# EAGLE library part AD8422 (library common)
16-Bit SAR ADC - 4MSPS
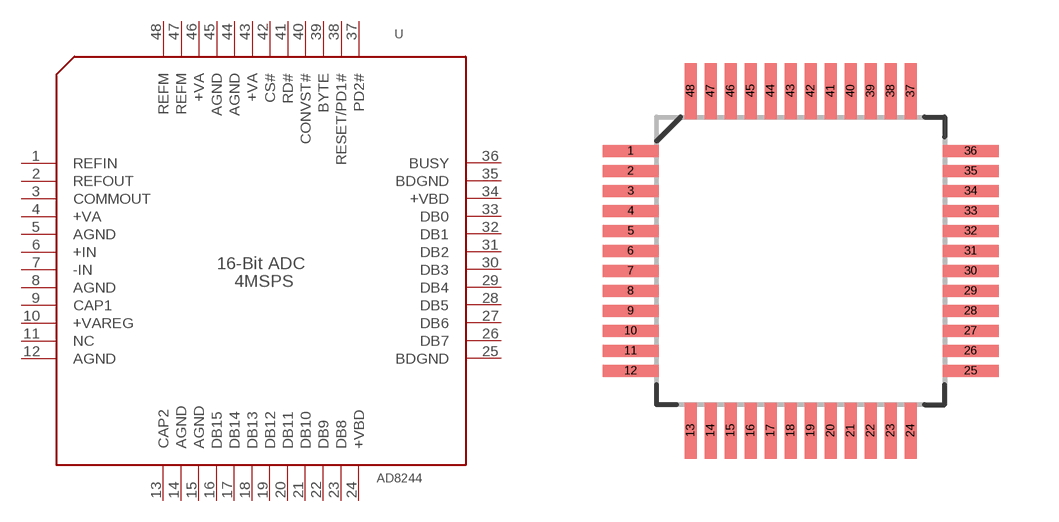
[diagram p16: symbol with the pads of S-PQFP-G48; footprint S-PQFP-G48]

Designator prefix -

## AD8422  [S-PQFP-G48]
1  REFIN
2  REFOUT
3  COMMOUT
4  +VA
5  AGND
6  +IN
7  -IN
8  AGND
9  CAP1
10  +VAREG
11  NC
12  AGND
13  CAP2
14  AGND
15  AGND
16  DB15
17  DB14
18  DB13
19  DB12
20  DB11
21  DB10
22  DB9
23  DB8
24  +VBD
25  BDGND
26  DB7
27  DB6
28  DB5
29  DB4
30  DB3
31  DB2
32  DB1
33  DB0
34  +VBD
35  BDGND
36  BUSY
37  PD2#
38  RESET/PD1#
39  BYTE
40  CONVST#
41  RD#
42  CS#
43  +VA
44  AGND
45  AGND
46  +VA
47  REFM
48  REFM

## Footprint S-PQFP-G48 (pad centres in mm)
smd 1.4 x 0.3: 1 -4.25,2.75; 2 -4.25,2.25; 3 -4.25,1.75; 4 -4.25,1.25; 5 -4.25,0.75; 6 -4.25,0.25; 7 -4.25,-0.25; 8 -4.25,-0.75; 9 -4.25,-1.25; 10 -4.25,-1.75; 11 -4.25,-2.25; 12 -4.25,-2.75; 25 4.25,-2.75; 26 4.25,-2.25; 27 4.25,-1.75; 28 4.25,-1.25; 29 4.25,-0.75; 30 4.25,-0.25; 31 4.25,0.25; 32 4.25,0.75; 33 4.25,1.25; 34 4.25,1.75; 35 4.25,2.25; 36 4.25,2.75
smd 0.3 x 1.4: 13 -2.75,-4.25; 14 -2.25,-4.25; 15 -1.75,-4.25; 16 -1.25,-4.25; 17 -0.75,-4.25; 18 -0.25,-4.25; 19 0.25,-4.25; 20 0.75,-4.25; 21 1.25,-4.25; 22 1.75,-4.25; 23 2.25,-4.25; 24 2.75,-4.25; 37 2.75,4.25; 38 2.25,4.25; 39 1.75,4.25; 40 1.25,4.25; 41 0.75,4.25; 42 0.25,4.25; 43 -0.25,4.25; 44 -0.75,4.25; 45 -1.25,4.25; 46 -1.75,4.25; 47 -2.25,4.25; 48 -2.75,4.25